# EAGLE library part ADUM3160 (library we-chip)
Analog ADuM3160 USB port isolator (pin compatible with ADuM4160)
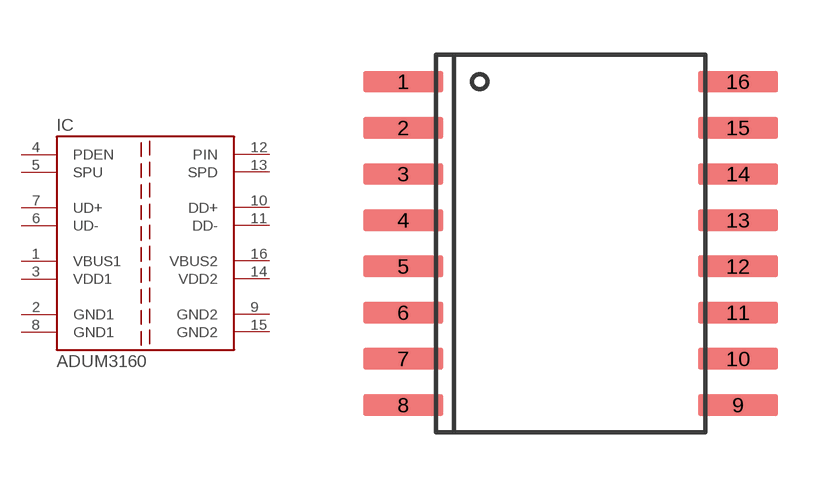
[diagram p6: symbol with the pads of SO16W; footprint SO16W]

Designator prefix IC

## ADUM3160  [SO16W]
1  VBUS1  pwr
2  GND1  pwr
3  VDD1  pwr
4  PDEN  in
5  SPU  in
6  UD-
7  UD+
8  GND1  pwr
9  GND2  pwr
10  DD+
11  DD-
12  PIN  in
13  SPD  in
14  VDD2  pwr
15  GND2  pwr
16  VBUS2  pwr

## Footprint SO16W (pad centres in mm)
smd 2.2 x 0.6: 1 -4.6,4.445; 2 -4.6,3.175; 3 -4.6,1.905; 4 -4.6,0.635; 5 -4.6,-0.635; 6 -4.6,-1.905; 7 -4.6,-3.175; 8 -4.6,-4.445; 9 4.6,-4.445; 10 4.6,-3.175; 11 4.6,-1.905; 12 4.6,-0.635; 13 4.6,0.635; 14 4.6,1.905; 15 4.6,3.175; 16 4.6,4.445